# Altium footprint library SAMTEC_TSW.PCBLIB: 8 footprints
Each footprint in its own frame and in the unit in brackets; x right, y up, seen from the top. Pads: shape width x height; smd on the part's side, far side on the other; paste and mask are expansions set on the pad; w line width, h text height; cw(c..) or ccw(c..) is an arc to the next point about the centre after c.
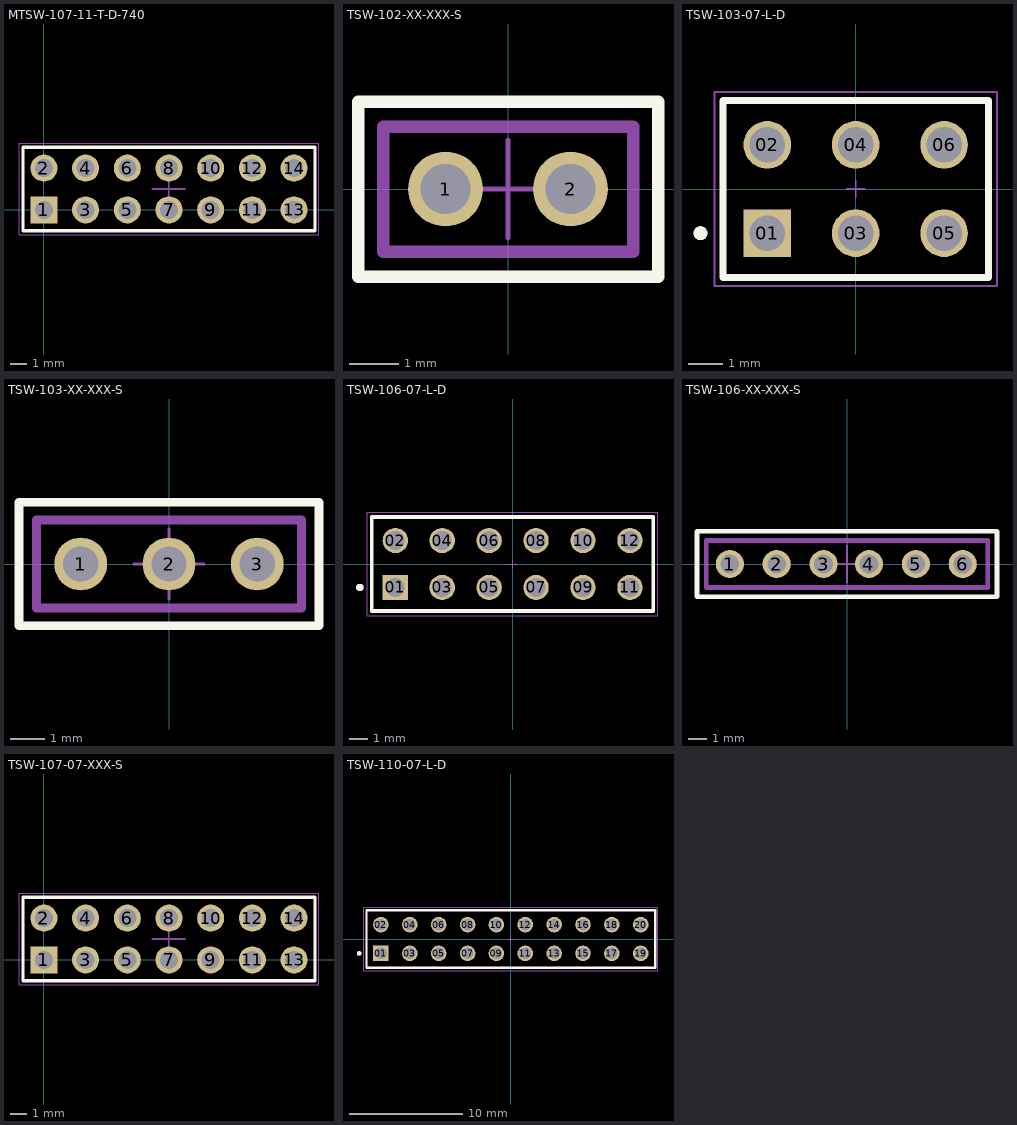
[diagram p0: the footprints below, top view; thin cyan lines are the x and y axes]

## MTSW-107-11-T-D-740 [mm]
pads (14):
  rect 1.65x1.65 hole 1.1: 1(0,0)
  round 1.65 hole 1.1: 2(0,2.54) 3(2.54,0) 4(2.54,2.54) 5(5.08,0) 6(5.08,2.54) 7(7.62,0) 8(7.62,2.54) 9(10.16,0) 10(10.16,2.54) 11(12.7,0) 12(12.7,2.54) 13(15.24,0) 14(15.24,2.54)
Top Overlay:
  lines w0.2: -1.27,-1.27 -1.27,3.81 16.51,3.81 16.51,-1.27 -1.27,-1.27
Top Assembly:
  lines w0.1: -1.27,-1.27 -1.27,3.81 16.51,3.81 16.51,-1.27 -1.27,-1.27
Top Courtyard:
  lines w0.05: -1.52,-1.52 -1.52,4.06 16.76,4.06 16.76,-1.52 -1.52,-1.52
Top Designator:
  text ".Designator" at 4.3,4.3 h0.76
Top Component Center:
  lines w0.1: 6.6,1.27 8.6,1.27 ; 7.6,0.27 7.6,2.27
3D body "MTSW-107-11-T-D-740.stp": height 21.34, standoff -2.29, extent -1.38,-1.24 16.4,3.84

## TSW-102-XX-XXX-S [mil]
pads (2):
  round 60 hole 40 mask+3: 1(-50,0) 2(50,0)
Top Overlay:
  lines w10: -120,-70 -120,70 120,70 120,-70 -120,-70
Top Assembly:
  lines w10: -100,-50 -100,50 100,50 100,-50 -100,-50
Top Courtyard:
  lines w3.94: -118.11,-70.87 118.11,-70.87 118.11,70.87 -118.11,70.87 -118.11,-70.87
Top Designator:
  text ".Designator" at -15.75,-15.75 h30
Top Component Center:
  lines w3.94: -39.37,0 39.37,0 ; 0,-39.37 0,39.37
3D body "TSW-102-07-G-S.stp": height 330, standoff -100, extent -105,-49.99 100,50.01

## TSW-103-07-L-D [mm]
pads (6):
  rect 1.37x1.37 hole 1.02: 01(-2.54,-1.27)
  round 1.37 hole 1.02: 02(-2.54,1.27) 03(0,-1.27) 04(0,1.27) 05(2.54,-1.27) 06(2.54,1.27)
Top Overlay:
  circle w0.2: c-4.46,-1.27 r0.1
  lines w0.2: -3.81,-2.54 3.81,-2.54 3.81,2.54 -3.81,2.54 -3.81,-2.54
Top Assembly:
  circle w0.2: c-4.46,-1.27 r0.1
  lines w0.1: -3.81,-2.54 -3.81,2.54 ; -3.81,-2.54 3.81,-2.54 ; -3.81,-2.54 -3.81,2.54 ; -3.81,2.54 3.81,2.54 ; -3.81,2.54 3.81,2.54 ; 3.81,-2.54 3.81,2.54 ; 3.81,-2.54 3.81,2.54
Top Courtyard:
  lines w0.05: -4.06,-2.79 4.06,-2.79 4.06,2.79 -4.06,2.79 -4.06,-2.79
Top Designator:
  text ".Designator" at -1.143,-0.254 h0.5
Top Component Center:
  lines w0.05: -0.254,0 0.254,0 ; 0,-0.254 0,0.254
3D body "TSW-103-07-L-D.stp": height 8.38, standoff -2.54, extent -3.854,-2.499 3.766,2.581

## TSW-103-XX-XXX-S [mil]
pads (3):
  round 60 hole 40 mask+3: 1(-100,0) 2(0,0) 3(100,0)
Top Overlay:
  lines w10: -170,-70 170,-70 170,70 -170,70 -170,-70
Top Assembly:
  lines w10: -150,-50 150,-50 150,50 -150,50 -150,-50
Top Courtyard:
  lines w3.94: -169.29,-70.87 -169.29,70.87 169.29,70.87 169.29,-70.87 -169.29,-70.87
Top Designator:
  text ".Designator" at -10.32,-20 h30
Top Component Center:
  lines w3.94: -39.37,0 39.37,0 ; 0,-39.37 0,39.37
3D body "TSW-103-07-F-S.stp": height 330, standoff -100, extent -155,-50 150,50

## TSW-106-07-L-D [mm]
pads (12):
  rect 1.37x1.37 hole 1.02: 01(-6.35,-1.27)
  round 1.37 hole 1.02: 02(-6.35,1.27) 03(-3.81,-1.27) 04(-3.81,1.27) 05(-1.27,-1.27) 06(-1.27,1.27) 07(1.27,-1.27) 08(1.27,1.27) 09(3.81,-1.27) 10(3.81,1.27) 11(6.35,-1.27) 12(6.35,1.27)
Top Overlay:
  circle w0.2: c-8.27,-1.27 r0.1
  lines w0.2: -7.62,-2.54 -7.62,2.54 7.62,2.54 7.62,-2.54 -7.62,-2.54
Top Assembly:
  circle w0.2: c-8.27,-1.27 r0.1
  lines w0.1: -7.62,-2.54 -7.62,2.54 ; -7.62,-2.54 7.62,-2.54 ; -7.62,-2.54 -7.62,2.54 ; -7.62,2.54 7.62,2.54 ; -7.62,2.54 7.62,2.54 ; 7.62,-2.54 7.62,2.54 ; 7.62,-2.54 7.62,2.54
Top Courtyard:
  lines w0.05: -7.87,-2.79 -7.87,2.79 7.87,2.79 7.87,-2.79 -7.87,-2.79
Top Designator:
  text ".Designator" at -1.143,-0.254 h0.5
Top Component Center:
  lines w0.05: -0.254,0 0.254,0 ; 0,-0.254 0,0.254
3D body "TSW-106-07-L-D.stp": height 8.38, standoff -2.54, extent -7.621,-2.567 7.619,2.513

## TSW-106-XX-XXX-S [mil]
pads (6):
  round 60 hole 40 mask+3: 1(-250,0) 2(-150,0) 3(-50,0) 4(46.85,0) 5(146.85,0) 6(246.85,0)
Top Overlay:
  lines w10: -320,-70 320,-70 320,70 -320,70 -320,-70
Top Assembly:
  lines w10: -300,-50 300,-50 300,50 -300,50 -300,-50
Top Courtyard:
  lines w3.94: -318.9,-70.87 -318.9,70.87 318.9,70.87 318.9,-70.87 -318.9,-70.87
Top Designator:
  text ".Designator" at -6.38,-16.06 h30
Top Component Center:
  lines w3.94: -39.37,0 39.37,0 ; 0,-39.37 0,39.37
3D body "TSW-106-07-L-S.stp": height 330, standoff -100, extent -304.99,-49.99 300.01,50.01

## TSW-107-07-XXX-S [mm]
pads (14):
  rect 1.65x1.65 hole 1.1: 1(0,0)
  round 1.65 hole 1.1: 2(0,2.54) 3(2.54,0) 4(2.54,2.54) 5(5.08,0) 6(5.08,2.54) 7(7.62,0) 8(7.62,2.54) 9(10.16,0) 10(10.16,2.54) 11(12.7,0) 12(12.7,2.54) 13(15.24,0) 14(15.24,2.54)
Top Overlay:
  lines w0.2: -1.27,-1.27 -1.27,3.81 16.51,3.81 16.51,-1.27 -1.27,-1.27
Top Assembly:
  lines w0.1: -1.27,-1.27 -1.27,3.81 16.51,3.81 16.51,-1.27 -1.27,-1.27
Top Courtyard:
  lines w0.05: -1.52,-1.52 -1.52,4.06 16.76,4.06 16.76,-1.52 -1.52,-1.52
Top Designator:
  text ".Designator" at 4.3,4.3 h0.76
Top Component Center:
  lines w0.1: 6.6,1.27 8.6,1.27 ; 7.6,0.27 7.6,2.27
3D body "TSW-107-07-SM-D-LL.stp": height 8.38, standoff -2.54, extent -1.27,-1.27 16.51,3.81

## TSW-110-07-L-D [mm]
pads (20):
  rect 1.37x1.37 hole 1.02: 01(-11.43,-1.27)
  round 1.37 hole 1.02: 02(-11.43,1.27) 03(-8.89,-1.27) 04(-8.89,1.27) 05(-6.35,-1.27) 06(-6.35,1.27) 07(-3.81,-1.27) 08(-3.81,1.27) 09(-1.27,-1.27) 10(-1.27,1.27) 11(1.27,-1.27) 12(1.27,1.27) 13(3.81,-1.27) 14(3.81,1.27) 15(6.35,-1.27) 16(6.35,1.27) 17(8.89,-1.27) 18(8.89,1.27) 19(11.43,-1.27) 20(11.43,1.27)
Top Overlay:
  circle w0.2: c-13.35,-1.27 r0.1
  lines w0.2: -12.7,-2.54 -12.7,2.54 12.7,2.54 12.7,-2.54 -12.7,-2.54
Top Assembly:
  circle w0.2: c-13.35,-1.27 r0.1
  lines w0.1: -12.7,-2.54 -12.7,2.54 ; -12.7,-2.54 12.7,-2.54 ; -12.7,-2.54 -12.7,2.54 ; -12.7,2.54 12.7,2.54 ; -12.7,2.54 12.7,2.54 ; 12.7,-2.54 12.7,2.54 ; 12.7,-2.54 12.7,2.54
Top Courtyard:
  lines w0.05: -12.95,-2.79 -12.95,2.79 12.95,2.79 12.95,-2.79 -12.95,-2.79
Top Designator:
  text ".Designator" at -1.143,-0.254 h0.5
Top Component Center:
  lines w0.05: -0.254,0 0.254,0 ; 0,-0.254 0,0.254
3D body "TSW-110-07-L-D.stp": height 8.38, standoff -2.54, extent -12.7,-2.54 12.7,2.54